# Altium footprint library ECSlib.PcbLib: 62 footprints (part 2 of 4)
Each footprint in its own frame and in the unit in brackets; x right, y up, seen from the top. Pads: shape width x height; smd on the part's side, far side on the other; paste and mask are expansions set on the pad; w line width, h text height; cw(c..) or ccw(c..) is an arc to the next point about the centre after c.
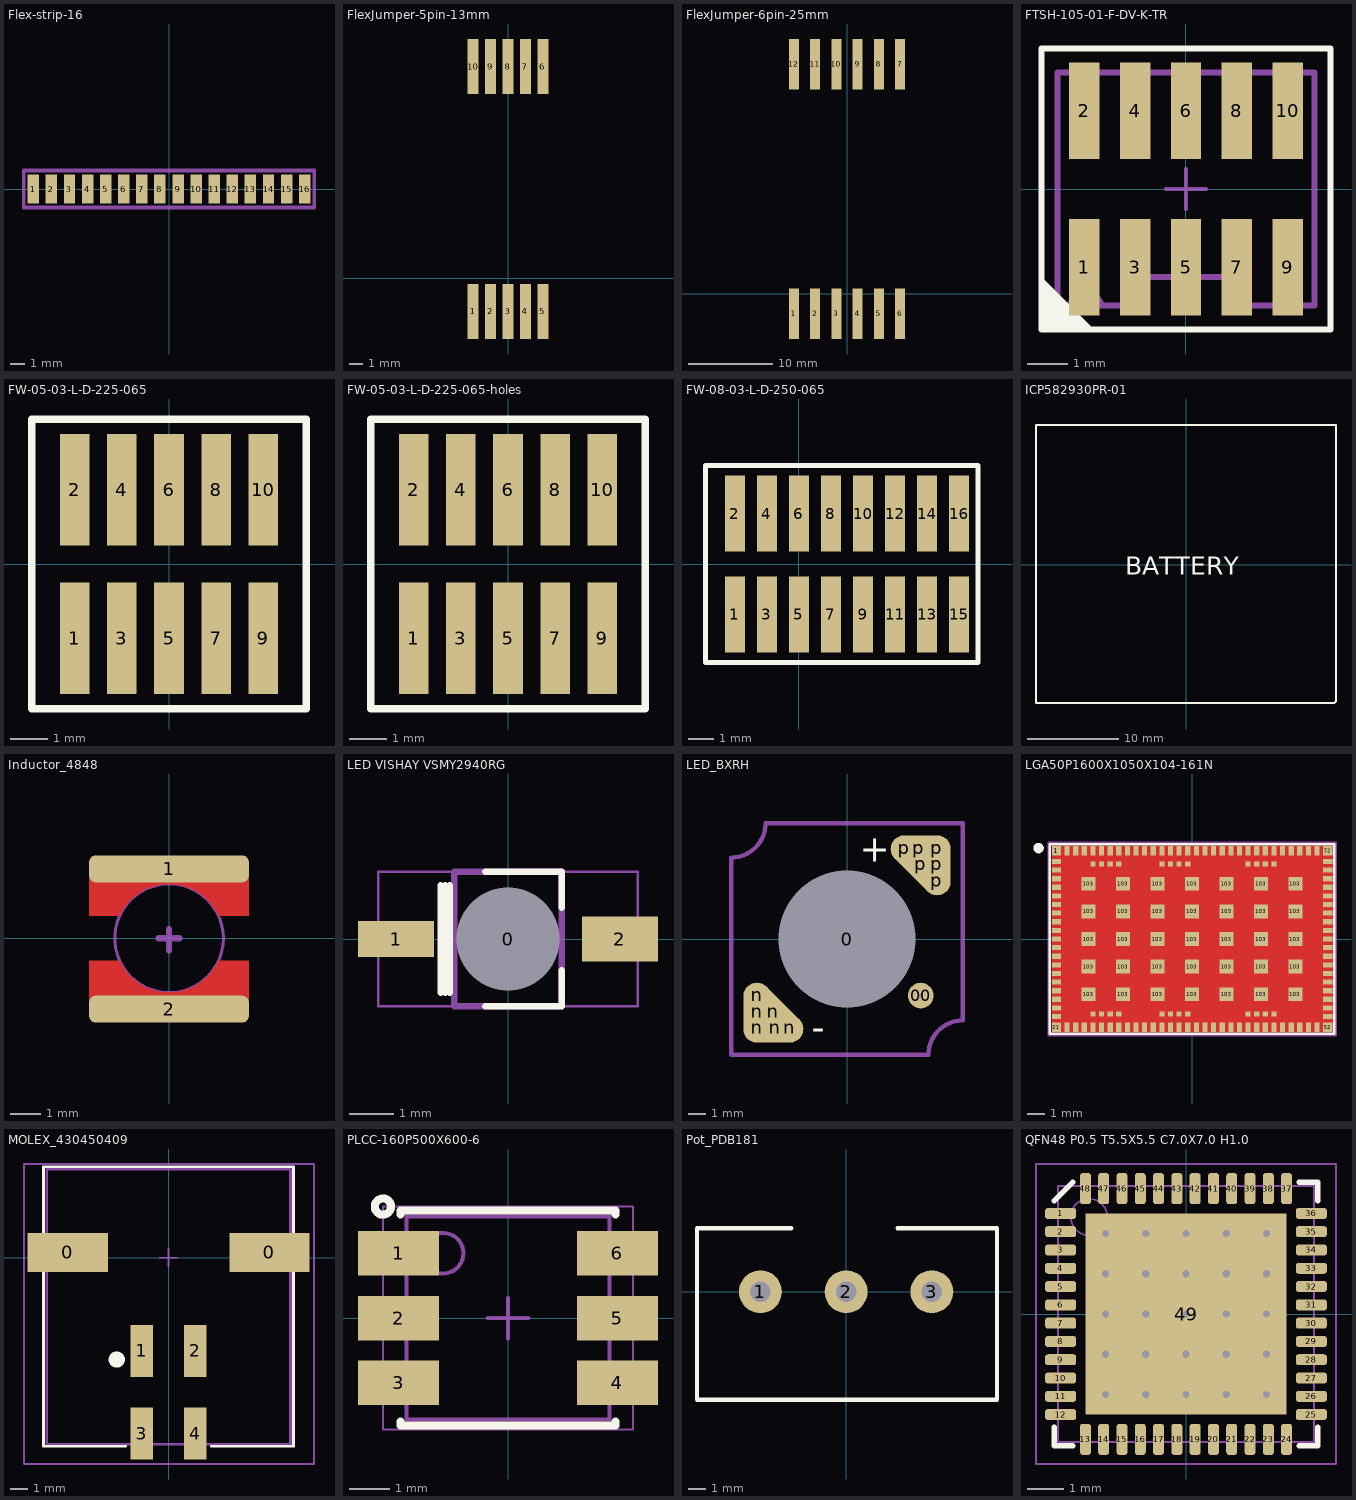
[diagram p1: the footprints below, top view; thin cyan lines are the x and y axes]

## Flex-strip-16 [mm]
pads (16):
  rect 0.8x2 smd: 1(-9.525,0) 2(-8.255,0) 3(-6.985,0) 4(-5.715,0) 5(-4.445,0) 6(-3.175,0) 7(-1.905,0) 8(-0.635,0) 9(0.635,0) 10(1.905,0) 11(3.175,0) 12(4.445,0) 13(5.715,0) 14(6.985,0) 15(8.255,0) 16(9.525,0)
Mechanical 15:
  lines w0.254: -10.2,-1.3 10.2,-1.3 10.2,1.3 -10.2,1.3 -10.2,-1.3

## FlexJumper-5pin-13mm [mm]
pads (10):
  rect 0.8x4 smd: 1(-2.54,-2.4) 2(-1.27,-2.4) 3(0,-2.4) 4(1.27,-2.4) 5(2.54,-2.4) 6(2.54,15.4) 7(1.27,15.4) 8(0,15.4) 9(-1.27,15.4) 10(-2.54,15.4)
3D body: height 0.36, standoff -0.04, extent -3.34,0 3.36,13
3D body: height 0.48, standoff -0.16, extent 2.221,0 2.859,13
3D body: height 0.32, standoff 0, extent 2.381,-3.4 2.699,16.6
3D body: height 0.48, standoff -0.16, extent 0.951,0 1.589,13
3D body: height 0.32, standoff 0, extent 1.111,-3.4 1.429,16.6
3D body: height 0.48, standoff -0.16, extent -0.319,0 0.319,13
3D body: height 0.32, standoff 0, extent -0.159,-3.4 0.159,16.6
3D body: height 0.48, standoff -0.16, extent -1.589,0 -0.951,13
3D body: height 0.32, standoff 0, extent -1.429,-3.4 -1.111,16.6
3D body: height 0.32, standoff 0, extent -2.699,-3.4 -2.381,16.6
3D body: height 0.48, standoff -0.16, extent -2.859,0 -2.221,13

## FlexJumper-6pin-25mm [mm]
pads (12):
  rect 1.2x6 smd: 1(-6.35,-2.4) 2(-3.81,-2.4) 3(-1.27,-2.4) 4(1.27,-2.4) 5(3.81,-2.4) 6(6.35,-2.4) 7(6.35,27.4) 8(3.81,27.4) 9(1.27,27.4) 10(-1.27,27.4) 11(-3.81,27.4) 12(-6.35,27.4)
3D body: height 0.84, standoff 0, extent -6.768,-3.18 -5.932,0
3D body: height 0.63, standoff 0.21, extent -9,0 9,25
3D body: height 0.84, standoff 0, extent -4.228,-3.18 -3.392,0
3D body: height 0.84, standoff 0, extent -1.688,-3.18 -0.852,0
3D body: height 0.84, standoff 0, extent 0.852,-3.18 1.688,0
3D body: height 0.84, standoff 0, extent 3.392,-3.18 4.228,0
3D body: height 0.84, standoff 0, extent 5.932,-3.18 6.768,0
3D body: height 0.84, standoff 0, extent -6.768,25 -5.932,28.18
3D body: height 0.84, standoff 0, extent -4.228,25 -3.392,28.18
3D body: height 0.84, standoff 0, extent -1.688,25 -0.852,28.18
3D body: height 0.84, standoff 0, extent 0.852,25 1.688,28.18
3D body: height 0.84, standoff 0, extent 3.392,25 4.228,28.18
3D body: height 0.84, standoff 0, extent 5.932,25 6.768,28.18

## FTSH-105-01-F-DV-K-TR [mm]
pads (10):
  rect 0.76x2.4 smd: 1(-2.54,-1.95) 2(-2.54,1.95) 3(-1.27,-1.95) 4(-1.27,1.95) 5(0,-1.95) 6(0,1.95) 7(1.27,-1.95) 8(1.27,1.95) 9(2.54,-1.95) 10(2.54,1.95)
Top Overlay:
  region: -3.6,-2.2 -3.6,-3.5 -2.3,-3.5
  lines w0.15: -3.6,-3.5 -3.6,3.5 3.6,3.5 3.6,-3.5 -3.6,-3.5
Mechanical 13:
  region: -2,-2.9 -2.5,-2.15 -3,-2.9
  lines w0.15: -3.2,-2.9 -3.2,2.9 3.2,2.9 3.2,-2.9 1.2,-2.9 1.2,-2.2 -1.2,-2.2 -1.2,-2.9 -3.2,-2.9
Mechanical 15:
  lines w0.05: -3.6,-3.5 3.6,-3.5 3.6,3.5 -3.6,3.5 -3.6,-3.5
  lines w0.1: -0.5,0 0.5,0 ; 0,-0.5 0,0.5
3D body "FTSH-105-01-L-DV-K-TR.stp": height 6.13, standoff 0.01, extent -3.175,-2.921 3.175,2.921

## FW-05-03-L-D-225-065 [mm]
pads (10):
  rect 0.8x3 smd: 1(-2.54,-2) 2(-2.54,2) 3(-1.27,-2) 4(-1.27,2) 5(0,-2) 6(0,2) 7(1.27,-2) 8(1.27,2) 9(2.54,-2) 10(2.54,2)
Top Overlay:
  lines w0.2: -3.7,-3.9 3.7,-3.9 3.7,3.9 -3.7,3.9 -3.7,-3.9
3D body "FW-05-03-L-D-225-065.stp": height 7.4, standoff 0.03, extent -3.175,-2.921 3.175,2.921

## FW-05-03-L-D-225-065-holes [mm]
pads (10):
  rect 0.8x3 smd: 1(-2.54,-2) 2(-2.54,2) 3(-1.27,-2) 4(-1.27,2) 5(0,-2) 6(0,2) 7(1.27,-2) 8(1.27,2) 9(2.54,-2) 10(2.54,2)
Top Overlay:
  lines w0.2: -3.7,-3.9 3.7,-3.9 3.7,3.9 -3.7,3.9 -3.7,-3.9
3D body "FW-05-03-L-D-225-065.stp": height 7.4, standoff 0.03, extent -3.175,-2.921 3.175,2.921

## FW-08-03-L-D-250-065 [mm]
pads (16):
  rect 0.8x3 smd: 1(-2.54,-2) 2(-2.54,2) 3(-1.27,-2) 4(-1.27,2) 5(0,-2) 6(0,2) 7(1.27,-2) 8(1.27,2) 9(2.54,-2) 10(2.54,2) 11(3.81,-2) 12(3.81,2) 13(5.08,-2) 14(5.08,2) 15(6.35,-2) 16(6.35,2)
Top Overlay:
  lines w0.2: -3.7,-3.9 -3.7,3.9 7.1,3.9 7.1,-3.9 -3.7,-3.9
3D body "FW-05-03-L-D-225-065.stp": height 7.4, standoff 0.03, extent -3.175,-2.921 3.175,2.921

## ICP582930PR-01 [mm]
Top Overlay:
  lines w0.25: -16.5,-15.2 16.3,-15.2 16.5,-15 16.5,15.4 -16.5,15.4 -16.5,-15.2
  text "BATTERY" at -6.7,-1.1 h2
3D body: height 6.2, standoff 1.5, extent -16,-14.8 16,14.8

## Inductor_4848 [mm]
pads (2):
  rrect50% 5.3x0.9 smd mask+0: 1(0,2.3) 2(0,-2.349)
Top Layer:
  region: 2.65,-2.3 -2.65,-2.3 -2.65,-0.75 -1.65,-0.75 -1.57,-0.902 -1.369,-1.181 -1.118,-1.416 -0.829,-1.601 -0.509,-1.727 -0.172,-1.792 0.172,-1.792 0.509,-1.727 0.829,-1.601 1.118,-1.416 1.369,-1.181 1.57,-0.902 1.65,-0.75 2.65,-0.75
  region: -2.65,2.3 2.65,2.3 2.65,0.75 1.65,0.75 1.57,0.902 1.369,1.181 1.118,1.416 0.829,1.601 0.509,1.727 0.172,1.792 -0.172,1.792 -0.509,1.727 -0.829,1.601 -1.118,1.416 -1.369,1.181 -1.57,0.902 -1.65,0.75 -2.65,0.75
Top Solder:
  region: 2.65,-2.3 -2.65,-2.3 -2.65,-0.75 -1.65,-0.75 -1.57,-0.902 -1.369,-1.181 -1.118,-1.416 -0.829,-1.601 -0.509,-1.727 -0.172,-1.792 0.172,-1.792 0.509,-1.727 0.829,-1.601 1.118,-1.416 1.369,-1.181 1.57,-0.902 1.65,-0.75 2.65,-0.75
  region: -2.65,2.3 2.65,2.3 2.65,0.75 1.65,0.75 1.57,0.902 1.369,1.181 1.118,1.416 0.829,1.601 0.509,1.727 0.172,1.792 -0.172,1.792 -0.509,1.727 -0.829,1.601 -1.118,1.416 -1.369,1.181 -1.57,0.902 -1.65,0.75 -2.65,0.75
Mechanical 15:
  circle w0.1: c0,0 r1.8
  lines w0.2: -0.341,0 0.341,0 ; 0,-0.4 0,0.3
3D body: height 2.75, standoff 0, extent -2.4,-2.4 2.4,2.4
3D body: height 2.8, standoff 0, extent -2,-2 2,2

## LED VISHAY VSMY2940RG [mm] "High Speed Infrared Emitting Diodes"
height 2.8
pads (3):
  round 0.6 hole 2.3 unplated: 0(0,0)
  rect 1.7x0.8 smd: 1(-2.5,0)
  rect 1.7x1 smd: 2(2.5,0)
Top Overlay:
  lines w0.15: -1.5,-1.2 -1.5,1.2 ; -1.4,-1.2 -1.4,1.2 ; -1.3,-1.2 -1.3,1.2
  lines w0.152: -0.5,-1.5 1.2,-1.5 1.2,-0.7 ; -0.5,1.5 1.2,1.5 1.2,0.7
Mechanical 13:
  lines w0.15: -1.2,-1.5 1.2,-1.5 1.2,1.5 -1.2,1.5 -1.2,-1.5
Mechanical 15:
  lines w0.05: -2.9,-1.5 -2.9,1.5 2.9,1.5 2.9,-1.5 -2.9,-1.5
  lines w0.1: -0.5,0 0.5,0 ; 0,-0.5 0,0.5
3D body: height 0.8, standoff -1.2, extent -1,-1 1,1
3D body: height 1.6, standoff 0, extent -1.2,-1.2 1.2,1.2

## LED_BXRH [mm]
pads (14):
  oval 1.9x1.6 hole 8 unplated: 0(0,0)
  round 1.5 hole 0.25 unplated: 00(4.3,-3.3)
  round 1.6 smd: n(-5.25,-5.25) n(-5.25,-3.35) n(-3.35,-5.25) p(3.35,5.25) p(5.25,3.35) p(5.25,5.25)
  rect 1.6x1.9 smd: n(-5.25,-4.3) p(5.25,4.3)
  rect 2.699x1.6 smd rot 135: n(-4.3,-4.3) p(4.3,4.3)
  rect 1.9x1.6 smd: n(-4.2,-5.25) p(4.2,5.25)
Top Overlay:
  text "-" at -2.046,-5.908 h1.52
  text "+" at 0.754,4.5 h1.52
3D Body Top:
  circle w0.254: c0,0 r3.15
  circle w0.254: c0,0 r3.75
  lines w0.254: -6.75,4.68 -6.75,-6.75 4.75,-6.75 cw(c6.75,-6.75) 6.75,-4.75 6.75,6.75 -4.68,6.75 ; -6.75,4.75 ccw(c-6.75,6.75) -4.75,6.75
Mechanical 15:
  lines w0.254: -1,0 1,0 ; 0,-1 0,1
3D body: height 0.25, standoff 0, extent -5.55,-5.55 -3.048,-3.047
3D body: height 0.25, standoff 0, extent 3.048,3.047 5.55,5.55
3D body: height 0.98, standoff 0.01, extent -6.75,-6.75 6.75,6.75
3D body: height 0, standoff 0, extent 0,0 0,0
3D body: height 0, standoff 0, extent 0,0 0,0

## LGA50P1600X1050X104-161N [mm]
pads (161):
  rect 0.54x0.54 smd mask+0.05: 1(-7.87,5.12) 21(-7.87,-5.12) 52(7.87,-5.12) 72(7.87,5.12)
  rect 0.54x0.3 smd mask+0.05: 2(-7.87,4.5) 3(-7.87,4) 4(-7.87,3.5) 5(-7.87,3) 6(-7.87,2.5) 7(-7.87,2) 8(-7.87,1.5) 9(-7.87,1) 10(-7.87,0.5) 11(-7.87,0) 12(-7.87,-0.5) 13(-7.87,-1) 14(-7.87,-1.5) 15(-7.87,-2) 16(-7.87,-2.5) 17(-7.87,-3) 18(-7.87,-3.5) 19(-7.87,-4) 20(-7.87,-4.5) 53(7.87,-4.5) 54(7.87,-4) 55(7.87,-3.5) 56(7.87,-3) 57(7.87,-2.5) 58(7.87,-2) 59(7.87,-1.5) 60(7.87,-1) 61(7.87,-0.5) 62(7.87,0) 63(7.87,0.5) 64(7.87,1) 65(7.87,1.5) 66(7.87,2) 67(7.87,2.5) 68(7.87,3) 69(7.87,3.5) 70(7.87,4) 71(7.87,4.5)
  rect 0.3x0.54 smd mask+0.05: 22(-7.25,-5.12) 23(-6.75,-5.12) 24(-6.25,-5.12) 25(-5.75,-5.12) 26(-5.25,-5.12) 27(-4.75,-5.12) 28(-4.25,-5.12) 29(-3.75,-5.12) 30(-3.25,-5.12) 31(-2.75,-5.12) 32(-2.25,-5.12) 33(-1.75,-5.12) 34(-1.25,-5.12) 35(-0.75,-5.12) 36(-0.25,-5.12) 37(0.25,-5.12) 38(0.75,-5.12) 39(1.25,-5.12) 40(1.75,-5.12) 41(2.25,-5.12) 42(2.75,-5.12) 43(3.25,-5.12) 44(3.75,-5.12) 45(4.25,-5.12) 46(4.75,-5.12) 47(5.25,-5.12) 48(5.75,-5.12) 49(6.25,-5.12) 50(6.75,-5.12) 51(7.25,-5.12) 73(7.25,5.12) 74(6.75,5.12) 75(6.25,5.12) 76(5.75,5.12) 77(5.25,5.12) 78(4.75,5.12) 79(4.25,5.12) 80(3.75,5.12) 81(3.25,5.12) 82(2.75,5.12) 83(2.25,5.12) 84(1.75,5.12) 85(1.25,5.12) 86(0.75,5.12) 87(0.25,5.12) 88(-0.25,5.12) 89(-0.75,5.12) 90(-1.25,5.12) 91(-1.75,5.12) 92(-2.25,5.12) 93(-2.75,5.12) 94(-3.25,5.12) 95(-3.75,5.12) 96(-4.25,5.12) 97(-4.75,5.12) 98(-5.25,5.12) 99(-5.75,5.12) 100(-6.25,5.12) 101(-6.75,5.12) 102(-7.25,5.12)
  rect 0.8x0.8 smd mask+0.05: 103(-6,-3.2) 103(-6,-1.6) 103(-6,0) 103(-6,1.6) 103(-6,3.2) 103(-4,-3.2) 103(-4,-1.6) 103(-4,0) 103(-4,1.6) 103(-4,3.2) 103(-2,-3.2) 103(-2,-1.6) 103(-2,0) 103(-2,1.6) 103(-2,3.2) 103(0,-3.2) 103(0,-1.6) 103(0,0) 103(0,1.6) 103(0,3.2) 103(2,-3.2) 103(2,-1.6) 103(2,0) 103(2,1.6) 103(2,3.2) 103(4,-3.2) 103(4,-1.6) 103(4,0) 103(4,1.6) 103(4,3.2) 103(6,-3.2) 103(6,-1.6) 103(6,0) 103(6,1.6) 103(6,3.2)
  rect 0.3x0.3 smd mask+0.05: 104(-5.75,-4.35) 105(-5.25,-4.35) 106(-4.75,-4.35) 107(-4.25,-4.35) 108(-1.75,-4.35) 109(-1.25,-4.35) 110(-0.75,-4.35) 111(-0.25,-4.35) 112(3.25,-4.35) 113(3.75,-4.35) 114(4.25,-4.35) 115(4.75,-4.35) 116(4.75,4.35) 117(4.25,4.35) 118(3.75,4.35) 119(3.25,4.35) 120(-0.25,4.35) 121(-0.75,4.35) 122(-1.25,4.35) 123(-1.75,4.35) 124(-4.25,4.35) 125(-4.75,4.35) 126(-5.25,4.35) 127(-5.75,4.35)
Top Layer:
  pour cut-out: -8.15,5.4 8.15,5.4 8.15,-5.4 -8.15,-5.4
Top Overlay:
  circle w0.3: c-8.904,5.274 r0.15
  lines w0.15: -8.25,-5.5 8.25,-5.5 8.25,5.5 -8.25,5.5 -8.25,-5.5
3D Body Bottom:
  circle w0.3: c-6.5,3.75 r0.15
  lines w0.1: -8.05,-5.3 8.05,-5.3 8.05,5.3 -8.05,5.3 -8.05,-5.3
  text ".Designator" at 0.5,-0.1 h0.38
Mechanical 15:
  circle w0.3: c-6.5,3.75 r0.15
  lines w0.1: -8.35,-5.6 -8.35,5.6 8.35,5.6 8.35,-5.6 -8.35,-5.6
3D body "nRF9160_v5.step": height 1.2, standoff 0, extent -8.05,-5.3 8.05,5.3

## MOLEX_430450409 [mm]
pads (6):
  rect 4.5x2.2 smd: 0(-5.65,0.3) 0(5.65,0.3)
  rect 1.27x2.92 smd: 1(-1.5,-5.22) 2(1.5,-5.22) 3(-1.5,-9.85) 4(1.5,-9.85)
Top Overlay:
  circle w0.5: c-2.9,-5.7 r0.2
  lines w0.15: -2.4,-10.55 -7,-10.55 -7,5.1 7,5.1 7,-10.55 2.4,-10.55
Courtyard Top:
  lines w0.1: -0.5,0 0.5,0 ; 0,-0.5 0,0.5 ; -8.1,-11.55 -8.1,5.25 8.15,5.25 8.15,-11.55 -8.1,-11.55
Top Component Outline:
  lines w0.15: -6.825,-10.445 -6.825,4.955 6.825,4.955 6.825,-10.445 -6.825,-10.445
3D body "MOLEX_430450409.stp": height 8.78, standoff 0.01, extent -6.825,-10.445 6.825,4.955

## PLCC-160P500X600-6 [mm] "PLCC LED, 6-Leads, Body 5.00x5.00mm, Pitch 1.60mm, IPC Medium Density"
height 1.5
pads (6):
  rect 2x1.1 smd: 1(-2.7,1.6) 2(-2.7,0) 3(-2.7,-1.6) 4(2.7,-1.6) 5(2.7,0) 6(2.7,1.6)
Top Overlay:
  circle w0.2: c-3.085,2.75 r0.2
  lines w0.2: -2.65,-2.55 -2.65,-2.65 2.65,-2.65 2.65,-2.55 ; -2.65,2.55 -2.65,2.65 2.65,2.65 2.65,2.55
Assembly Top:
  circle w0.1: c-1.6,1.6 r0.5
  lines w0.1: -2.5,-2.5 -2.5,2.5 2.5,2.5 2.5,-2.5 -2.5,-2.5
Courtyard Top:
  lines w0.05: -3.085,-2.75 -3.085,2.75 3.085,2.75 3.085,-2.75 -3.085,-2.75
  lines w0.1: -0.5,0 0.5,0 ; 0,-0.5 0,0.5
3D body: height 1.5, standoff 0.2, extent -2.5,0 2.5,2.5
3D body: height 1.5, standoff 0.2, extent -2.5,-2.5 2.5,0
3D body: height 1.3, standoff 0.2, extent -2.25,-2.3 2.25,2.3

## Pot_PDB181 [mm]
pads (3):
  round 2.5 hole 1.2: 1(-5,0) 2(0,0) 3(5,0)
Top Overlay:
  lines w0.254: -3.2,3.7 -8.7,3.7 -8.7,3.5 -8.7,-6.3 8.8,-6.3 8.8,3.7 3,3.7
3D body: height 15.5, standoff 9.5, extent -3,3.4 3,19.4
3D body: height 12.5, standoff 0, extent -7.5,-1.8 7.5,1.8
3D body: height 0, standoff -4, extent 4.45,-0.1 5.55,0.1
3D body: height 0, standoff -4, extent -0.55,-0.1 0.55,0.1
3D body: height 0, standoff -4, extent -5.55,-0.1 -4.45,0.1
3D body: height 21, standoff 4, extent -8.5,-6.1 8.5,3.4

## QFN48 P0.5 T5.5X5.5 C7.0X7.0 H1.0 [mm] "QFN, 48-Leads, Body 7x7mm, Pitch 0.5mm, Thermal Pad 5.5x5.5mm, IPC High Density"
height 1
pads (49):
  rrect50% 0.85x0.3 smd: 1(-3.425,2.75) 2(-3.425,2.25) 3(-3.425,1.75) 4(-3.425,1.25) 5(-3.425,0.75) 6(-3.425,0.25) 7(-3.425,-0.25) 8(-3.425,-0.75) 9(-3.425,-1.25) 10(-3.425,-1.75) 11(-3.425,-2.25) 12(-3.425,-2.75) 25(3.425,-2.75) 26(3.425,-2.25) 27(3.425,-1.75) 28(3.425,-1.25) 29(3.425,-0.75) 30(3.425,-0.25) 31(3.425,0.25) 32(3.425,0.75) 33(3.425,1.25) 34(3.425,1.75) 35(3.425,2.25) 36(3.425,2.75)
  rrect50% 0.3x0.85 smd: 13(-2.75,-3.425) 14(-2.25,-3.425) 15(-1.75,-3.425) 16(-1.25,-3.425) 17(-0.75,-3.425) 18(-0.25,-3.425) 19(0.25,-3.425) 20(0.75,-3.425) 21(1.25,-3.425) 22(1.75,-3.425) 23(2.25,-3.425) 24(2.75,-3.425) 37(2.75,3.425) 38(2.25,3.425) 39(1.75,3.425) 40(1.25,3.425) 41(0.75,3.425) 42(0.25,3.425) 43(-0.25,3.425) 44(-0.75,3.425) 45(-1.25,3.425) 46(-1.75,3.425) 47(-2.25,3.425) 48(-2.75,3.425)
  rect 5.5x5.5 smd: 49(0,0)
via 2.2,-2.2 diameter 0.5 hole 0.2
via 1.1,-2.2 diameter 0.5 hole 0.2
via 0,-2.2 diameter 0.5 hole 0.2
via -1.1,-2.2 diameter 0.5 hole 0.2
via -2.2,-2.2 diameter 0.5 hole 0.2
via 2.2,-1.1 diameter 0.5 hole 0.2
via 1.1,-1.1 diameter 0.5 hole 0.2
via 0,-1.1 diameter 0.5 hole 0.2
via -1.1,-1.1 diameter 0.5 hole 0.2
via -2.2,-1.1 diameter 0.5 hole 0.2
via 2.2,0 diameter 0.5 hole 0.2
via 1.1,0 diameter 0.5 hole 0.2
via 0,0 diameter 0.5 hole 0.2
via -1.1,0 diameter 0.5 hole 0.2
via -2.2,0 diameter 0.5 hole 0.2
via 2.2,1.1 diameter 0.5 hole 0.2
via 1.1,1.1 diameter 0.5 hole 0.2
via 0,1.1 diameter 0.5 hole 0.2
via -1.1,1.1 diameter 0.5 hole 0.2
via -2.2,1.1 diameter 0.5 hole 0.2
via 2.2,2.2 diameter 0.5 hole 0.2
via 1.1,2.2 diameter 0.5 hole 0.2
via 0,2.2 diameter 0.5 hole 0.2
via -1.1,2.2 diameter 0.5 hole 0.2
via -2.2,2.2 diameter 0.5 hole 0.2
Top Overlay:
  lines w0.15: -3.6,-3.1 -3.6,-3.6 -3.1,-3.6 ; -3.6,3.1 -3.1,3.6 ; 3.1,-3.6 3.6,-3.6 3.6,-3.1 ; 3.1,3.6 3.6,3.6 3.6,3.1
Courtyard Top:
  lines w0.05: -4.1,-4.1 4.1,-4.1 4.1,4.1 -4.1,4.1 -4.1,-4.1
  lines w0.1: -0.5,0 0.5,0 ; 0,-0.5 0,0.5
Top Component Outline:
  circle w0.05: c-2.65,2.65 r0.5
  lines w0.05: -3.5,-3.5 3.5,-3.5 3.5,3.5 -3.5,3.5 -3.5,-3.5
3D body: height 1, standoff 0, extent -3.5,-3.5 3.5,3.525
3D body: height 1.01, standoff 1, extent -3.149,2.151 -2.151,3.149